# Altium footprint library BLM15BA750SN1D.PcbLib: 1 footprints
Each footprint in its own frame and in the unit in brackets; x right, y up, seen from the top. Pads: shape width x height; smd on the part's side, far side on the other; paste and mask are expansions set on the pad; w line width, h text height; cw(c..) or ccw(c..) is an arc to the next point about the centre after c.
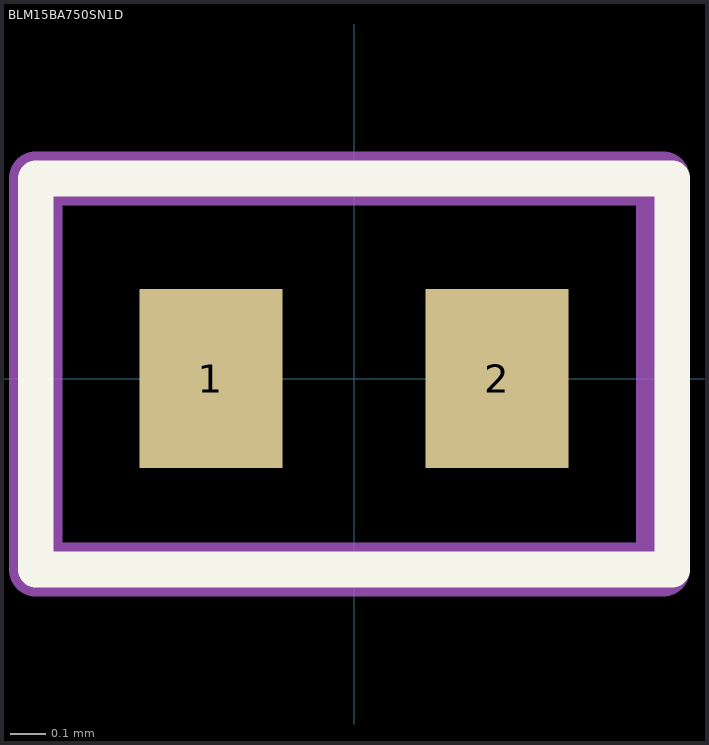
[diagram p0: the footprint, top view; thin cyan lines are the x and y axes]

## BLM15BA750SN1D [mm]
pads (2):
  rect 0.4x0.5 smd: 1(-0.4,0) 2(0.4,0)
Top Overlay:
  lines w0.1: -0.889,-0.533 -0.889,0.559 0.889,0.559 0.889,-0.533 -0.889,-0.533
Mechanical 29:
  lines w0.15: -0.889,-0.533 0.864,-0.533 0.864,0.559 -0.889,0.559 -0.889,-0.533
  text ".Designator" at -0.66,-0.102 h0.51